# Altium footprint library RADIAL-STD-P20-H5-D20.PcbLib: 1 footprints
Each footprint in its own frame and in the unit in brackets; x right, y up, seen from the top. Pads: shape width x height; smd on the part's side, far side on the other; paste and mask are expansions set on the pad; w line width, h text height; cw(c..) or ccw(c..) is an arc to the next point about the centre after c.
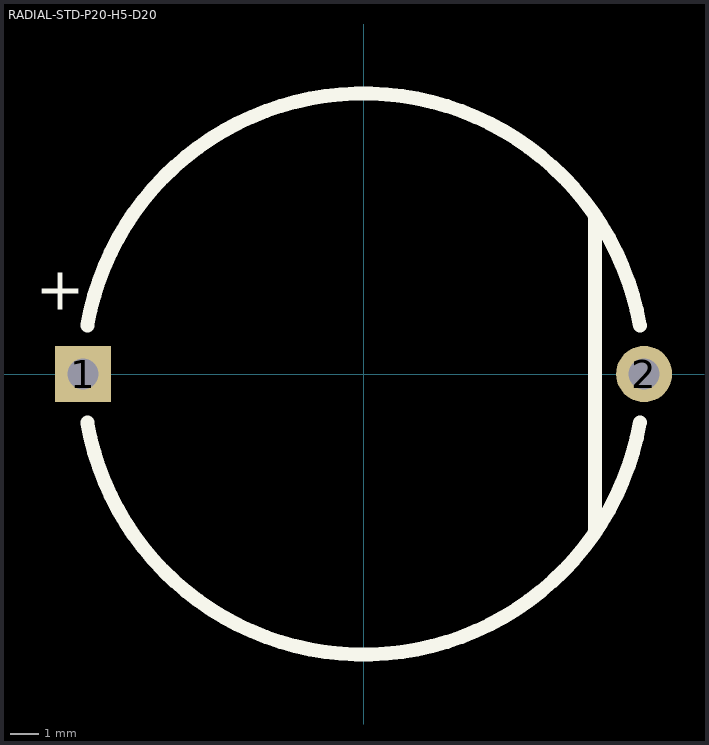
[diagram p0: the footprint, top view; thin cyan lines are the x and y axes]

## RADIAL-STD-P20-H5-D20 [mm]
pads (2):
  rect 2x2 hole 1.1: 1(-10,0)
  round 2 hole 1.1: 2(10,0)
Top Overlay:
  lines w0.5: -9.849,-1.736 ccw(c-0.001,0) 9.847,-1.736 ; -9.849,1.736 cw(c-0.001,0) 9.847,1.736 ; 8.255,-5.588 8.255,5.588
  text "+" at -11.684,2.286 h1.52
3D body: height 5, standoff 0, extent -9.968,-9.89 9.953,10.07